# Altium footprint library Revo_connector.PcbLib: 95 footprints (part 6 of 6)
Each footprint in its own frame and in the unit in brackets; x right, y up, seen from the top. Pads: shape width x height; smd on the part's side, far side on the other; paste and mask are expansions set on the pad; w line width, h text height; cw(c..) or ccw(c..) is an arc to the next point about the centre after c.
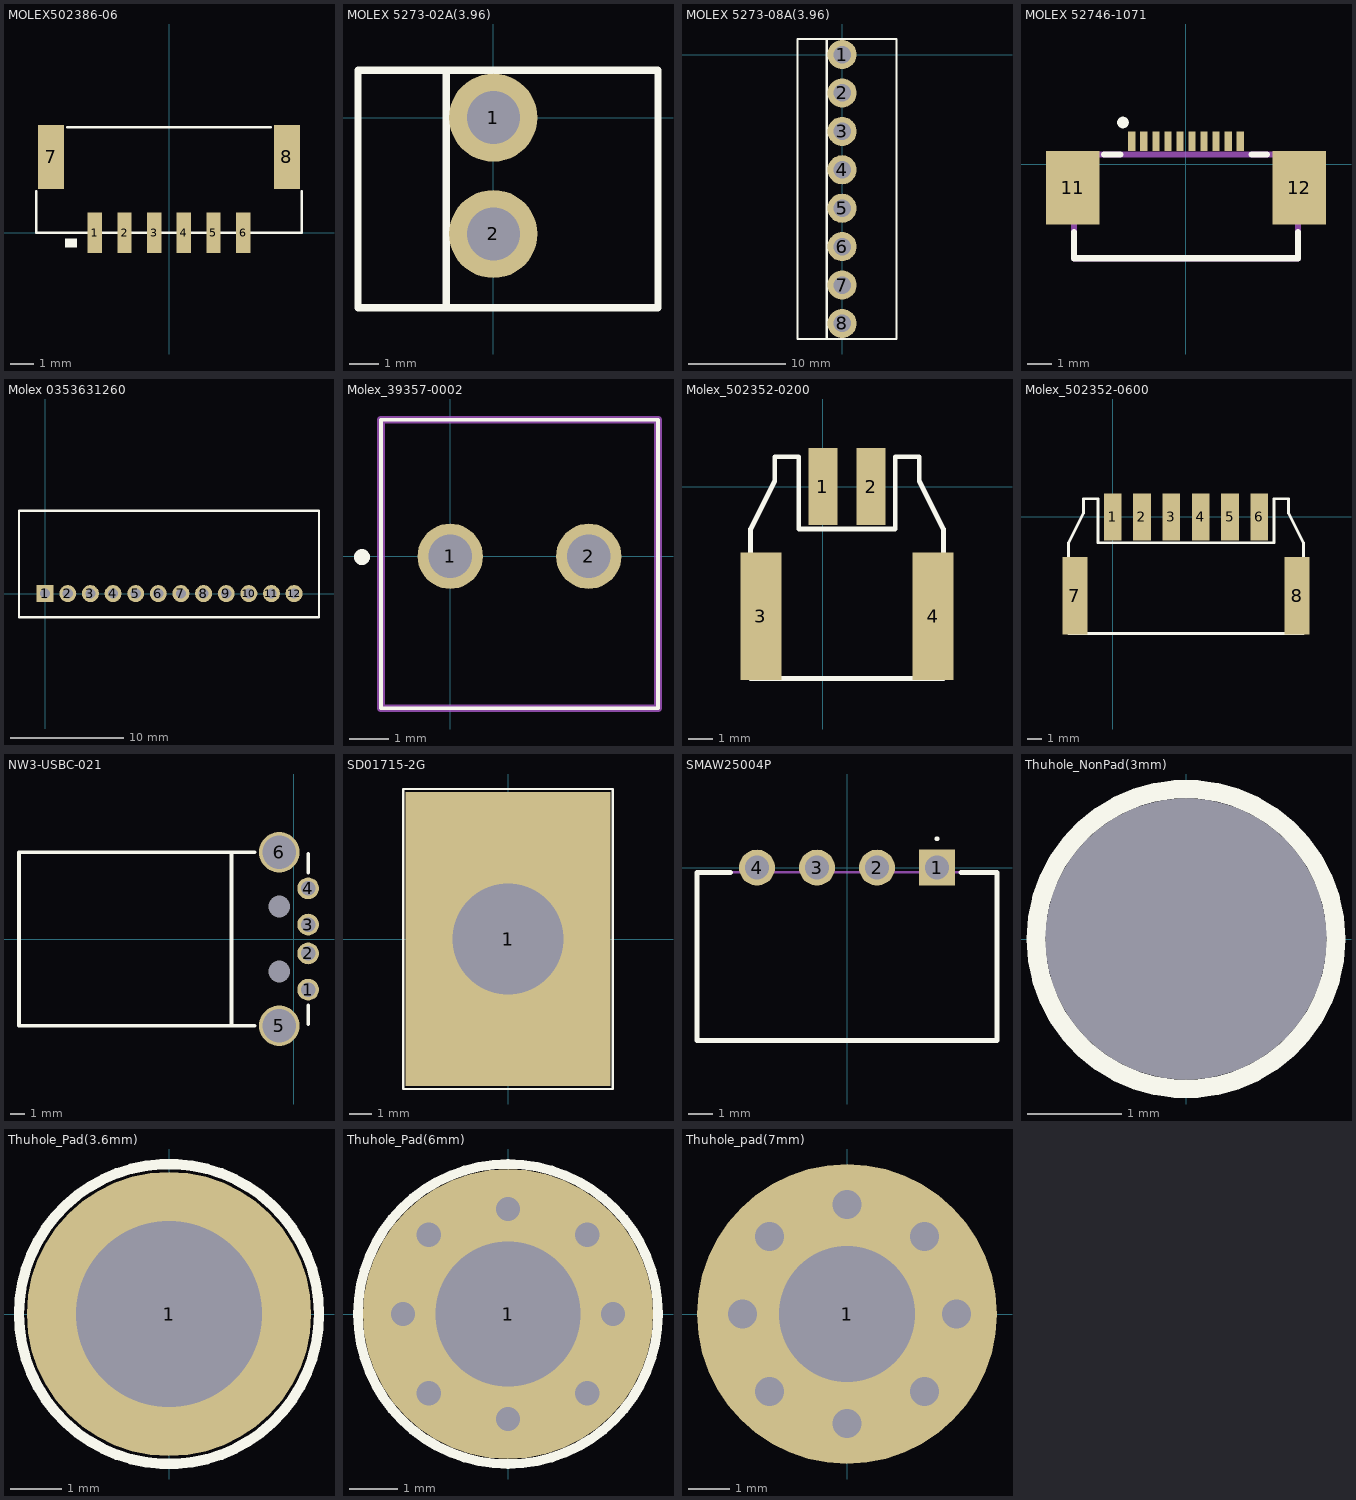
[diagram p5: the footprints below, top view; thin cyan lines are the x and y axes]

## MOLEX502386-06 [mm]
pads (8):
  rect 0.605x1.72 smd: 1(-3.125,0) 2(-1.875,0) 3(-0.625,0) 4(0.625,0) 5(1.875,0) 6(3.125,0)
  rect 1.1x2.7 smd: 7(-4.975,3.2) 8(4.975,3.2)
Top Overlay:
  rectangle: -4.375,-0.625 -3.875,-0.25
  lines w0.1: -5.6,1.75 -5.6,0 5.6,0 5.6,1.75 ; -4.3,4.45 4.3,4.45
3D body "5023860670.stp": height 5.53, standoff -0.03, extent -5.425,-0.55 5.425,4.45

## MOLEX 5273-02A(3.96) [mm]
pads (2):
  round 3 hole 1.8: 1(0,0) 2(0,-3.96)
Top Overlay:
  lines w0.254: -1.6,-6.46 -1.6,1.6 ; -4.6,-6.46 -4.6,1.6 5.6,1.6 5.6,-6.46 -4.6,-6.46

## MOLEX 5273-08A(3.96) [mm]
pads (8):
  round 3 hole 1.8: 1(0,0) 2(0,-3.96) 3(0,-7.92) 4(0,-11.88) 5(0,-15.84) 6(0,-19.8) 7(0,-23.76) 8(0,-27.72)
Top Overlay:
  lines w0.254: -1.6,-29.32 -1.6,1.6 ; -4.6,-29.32 -4.6,1.6 5.6,1.6 5.6,-29.32 -4.6,-29.32

## MOLEX 52746-1071 [mm]
pads (12):
  rect 0.3x0.8 smd: 1(-2.25,0.962) 2(-1.75,0.962) 3(-1.25,0.962) 4(-0.75,0.962) 5(-0.25,0.962) 6(0.25,0.962) 7(0.75,0.962) 8(1.25,0.962) 9(1.75,0.962) 10(2.25,0.962)
  rect 2.2x3.05 smd: 11(-4.7,-0.962) 12(4.7,-0.962)
Top Overlay:
  circle w0.254: c-2.615,1.738 r0.113
  lines w0.254: -4.65,-2.808 -4.65,-3.893 4.65,-3.893 4.65,-2.808 ; -3.408,0.406 -2.728,0.406 ; 2.724,0.406 3.361,0.406
Mechanical 13:
  lines w0.254: -4.65,-3.893 4.65,-3.893 4.65,0.406 -4.65,0.406 -4.65,-3.893
3D body "52746-1071.stp": height 2, standoff 0, extent -5.54,-5.323 5.56,1.277

## Molex 0353631260 [mm] "Connector; Header; 12 Position"
pads (12):
  rect 1.5x1.5 hole 0.9: 1(0,0)
  round 1.5 hole 0.9: 2(2,0) 3(4,0) 4(6,0) 5(8,0) 6(10,0) 7(12,0) 8(14,0) 9(16,0) 10(18,0) 11(20,0) 12(22,0)
Top Overlay:
  lines w0.2: -2.31,-2.1 24.2,-2.1 24.2,7.33 -2.31,7.33 -2.31,-2.1
3D body "353631260.stp": height 5.75, standoff -2.95, extent -2.18,-2 24.12,8.5

## Molex_39357-0002 [mm]
pads (2):
  round 1.65 hole 1.1: 1(0,0) 2(3.5,0)
Top Overlay:
  lines w0.1: -1.75,-3.84 5.25,-3.84 5.25,3.45 -1.75,3.45 -1.75,-3.84
  lines w0.2: -2.23,-0.12 cw(c-2.23,-0.02) -2.23,0.08 cw(c-2.23,-0.02) -2.23,-0.12
Mechanical 13:
  lines w0.2: -1.75,-3.84 5.25,-3.84 5.25,3.45 -1.75,3.45 -1.75,-3.84
3D body "39357-0002.stp": height 8.43, standoff -3.59, extent -1.816,-3.845 5.296,3.445

## Molex_502352-0200 [mm]
pads (4):
  rect 1.2x3.2 smd: 1(0,0) 2(2,0)
  rect 1.7x5.3 smd: 3(-2.575,-5.38) 4(4.575,-5.38)
Top Overlay:
  lines w0.2: -3,-7.965 -3,-1.765 -2,0.235 -2,1.235 -1,1.235 -1,-1.765 3,-1.765 3,1.235 4,1.235 4,0.235 5,-1.765 5,-7.965 -3,-7.965
3D body "502352-0200.stp": height 6.41, standoff 0.01, extent -2.984,-8.369 5.016,1.031

## Molex_502352-0600 [mm]
pads (8):
  rect 1.2x3.2 smd: 1(0,0) 2(2,0) 3(4,0) 4(6,0) 5(8,0) 6(10,0)
  rect 1.7x5.3 smd: 7(-2.575,-5.38) 8(12.575,-5.38)
Top Overlay:
  lines w0.2: -3,-7.965 -3,-1.765 -2,0.235 -2,1.235 -1,1.235 -1,-1.765 11,-1.765 11,1.235 12,1.235 12,0.235 13,-1.765 13,-7.965 -3,-7.965
3D body "5023520600.stp": height 6.41, standoff 0.01, extent -2.92,-7.948 13.08,1.452

## NW3-USBC-021 [mm]
pads (8):
  round 1.5 hole 1: 1(1,-3.5) 2(1,-1) 3(1,1) 4(1,3.5)
  round 2.8 hole 2.3: 5(-1,-6) 6(-1,6)
  round 0 hole 1.5: 5(-1,-2.25) 5(-1,2.25)
Top Overlay:
  lines w0.254: -4.3,-6 -4.3,6 ; -2.7,-6 -19,-6 -19,6 -2.7,6 ; 1,-5.9 1,-4.6 ; 1,4.6 1,5.9
3D body: height 4.5, standoff 0, extent -19,-5.9 -0.2,6.1

## SD01715-2G [mm]
pads (1):
  rect 9.2x13.2 hole 5: 1(0,0)
Top Overlay:
  lines w0.1: -4.699,-6.731 4.699,-6.731 4.699,6.731 -4.699,6.731 -4.699,-6.731

## SMAW25004P [mm]
pads (4):
  rect 1.5x1.5 hole 1: 1(3.75,0)
  round 1.5 hole 1: 2(1.25,0) 3(-1.25,0) 4(-3.75,0)
Top Overlay:
  lines w0.1: 3.75,1.15 cw(c3.75,1.2) 3.75,1.25 cw(c3.75,1.2) 3.75,1.15
  lines w0.2: -4.85,-0.2 -6.25,-0.2 -6.25,-7.2 6.25,-7.2 6.25,-0.2 4.75,-0.2
Mechanical 13:
  lines w0.1: -6.25,-7.2 6.25,-7.2 6.25,-0.2 -6.25,-0.2 -6.25,-7.2
3D body "SMAW250-04P.stp": height 5.9, standoff -5, extent -6.25,-7.2 6.25,0.397

## Thuhole_NonPad(3mm) [mm] "Thuhole"
pads (1):
  round 0 hole 3: 1(0,0)
Top Overlay:
  circle w0.2: c0,0 r1.6

## Thuhole_Pad(3.6mm) [mm] "Thuhole"
pads (1):
  round 5.5 hole 3.6: 1(0,0)
Top Overlay:
  circle w0.2: c0,0 r2.9

## Thuhole_Pad(6mm) [mm] "Thuhole"
pads (1):
  round 6 hole 3: 1(0,0)
via 1.636,-1.636 diameter 1 hole 0.5
via 2.167,0 diameter 1 hole 0.5
via 1.636,1.636 diameter 1 hole 0.5
via 0,2.167 diameter 1 hole 0.5
via 0,-2.167 diameter 1 hole 0.5
via -2.167,0 diameter 1 hole 0.5
via -1.636,1.636 diameter 1 hole 0.5
via -1.636,-1.636 diameter 1 hole 0.5
Top Overlay:
  circle w0.2: c0,0 r3.1

## Thuhole_pad(7mm) [mm] "Thuhole"
pads (1):
  round 7.3 hole 3.3: 1(0,0)
via 0,2.667 diameter 1.27 hole 0.711
via 0,-2.667 diameter 1.27 hole 0.711
via -2.54,0 diameter 1.27 hole 0.711
via 2.667,0 diameter 1.27 hole 0.711
via -1.886,1.886 diameter 1.27 hole 0.711
via 1.886,-1.886 diameter 1.27 hole 0.711
via -1.886,-1.886 diameter 1.27 hole 0.711
via 1.886,1.886 diameter 1.27 hole 0.711